# EAGLE library part MMPQ2222A (library nest_interface)
4 npn transistor array
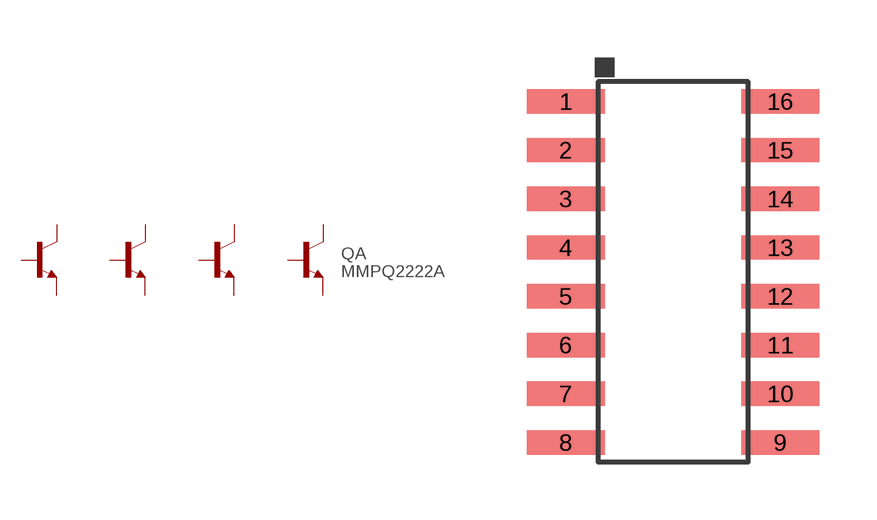
[diagram p4: symbol with the pads of SOIC-16; footprint SOIC-16]

Designator prefix QA

## MMPQ2222A (DIGIKEY: MMPQ2222ACT-ND)  [SOIC-16]
1  C1  pas
2  C1  pas
3  C2  pas
4  C2  pas
5  C3  pas
6  C3  pas
7  C4  pas
8  C4  pas
9  B4  pas
10  E4  pas
11  B3  pas
12  E3  pas
13  B2  pas
14  E2  pas
15  B1  pas
16  E1  pas

## Footprint SOIC-16 (pad centres in mm)
smd 2.032 x 0.635: 1 -2.794,4.445; 2 -2.794,3.175; 3 -2.794,1.905; 4 -2.794,0.635; 5 -2.794,-0.635; 6 -2.794,-1.905; 7 -2.794,-3.175; 8 -2.794,-4.445; 9 2.794,-4.445; 10 2.794,-3.175; 11 2.794,-1.905; 12 2.794,-0.635; 13 2.794,0.635; 14 2.794,1.905; 15 2.794,3.175; 16 2.794,4.445